# EAGLE library part BLUEGIGA_WT12 (library MAX9812)
BlueGiga's WT12 Bluetooth Module (2.0+EDR) Description: BlueCore4 is a single chip Bluetooth solution which implements the Bluetooth radio transceiver and also an on chip microcontroller. BlueCore4 implements Bluetooth® 2.0+EDR (Enhanced Data Rate) and it can deliver data rates up to 3 Mbps. The microcontroller (MCU) on BlueCore04 acts as interrupt controller and event timer run the Bluetooth software stack and control the radio and host interfaces. A 16-bit reduced instruction set computer (RISC) microcontroller is used for low power consumption and efficient use of memory. BlueCore04 has 48Kbytes of on-chip RAM is provided to support the RISC MCU and is shared between the ring buffers used to hold voice/data for each active connection and the general purpose memory required by the Bluetooth stack. Featrures: Fully Qualified Bluetooth system v2.0 + EDR, CE and FCC Integrated chip antenna Industrial temperature range from -40oC to +85oC Enhanced Data Rate (EDR) compliant with v2.0.E.2 of specification for both 2Mbps and 3Mbps modulation modes RoHS Compliant Full Speed Bluetooth Operation with Full Piconet Scatternet Support USB version 1.2 UART with bypass mode Support for 802.11 Coexistence 8Mbits of External Flash Applications: Hand held terminals Industrial devices Point-of-Sale systems PCs Personal Digital Assistants (PDAs) Computer Accessories Access Points Please send any comments to: messi@users.sourceforge.net
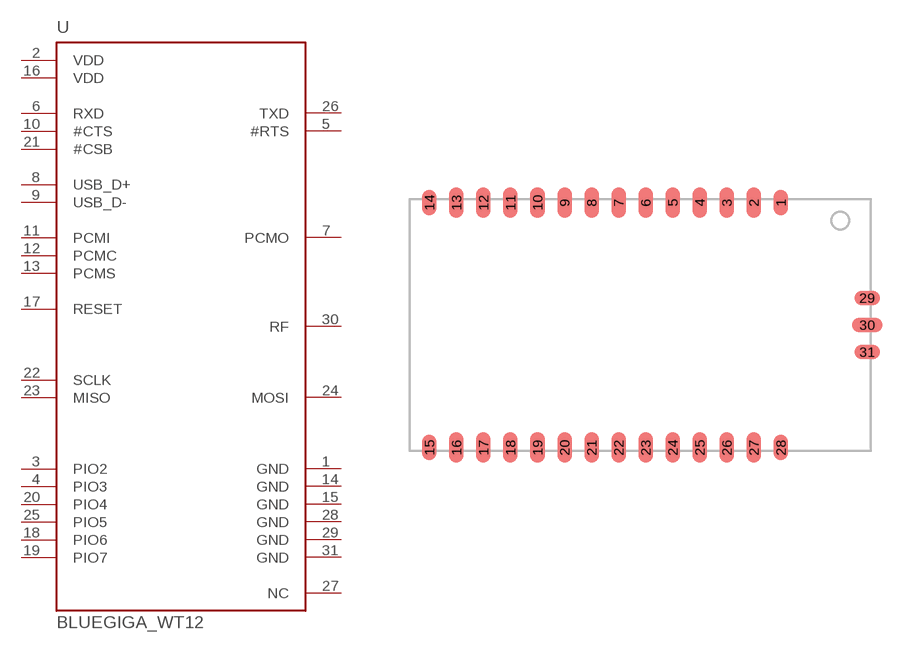
[diagram p146: symbol with the pads of WT12; footprint WT12]

Designator prefix U

## BLUEGIGA_WT12W  [WT12]
1  GND  pwr
2  VDD  pwr
3  PIO2
4  PIO3
5  #RTS  out
6  RXD  in
7  PCMO  out
8  USB_D+  sup
9  USB_D-  sup
10  #CTS  in
11  PCMI  in
12  PCMC
13  PCMS
14  GND  pwr
15  GND  pwr
16  VDD  pwr
17  RESET  in
18  PIO6
19  PIO7
20  PIO4
21  #CSB  in
22  SCLK
23  MISO  in
24  MOSI  out
25  PIO5
26  TXD  out
27  NC  nc
28  GND  pwr
29  GND  pwr
30  RF  pas
31  GND  pwr

## Footprint WT12 (pad centres in mm)
Footprint for the WT12 Bluetooth module from BlueGiga
smd 0.8 x 1.4: 1 7.8,6.8; 14 -11.7,6.8; 15 -11.7,-6.8; 28 7.8,-6.8
smd 0.8 x 1.7: 2 6.3,6.8; 3 4.8,6.8; 4 3.3,6.8; 5 1.8,6.8; 6 0.3,6.8; 7 -1.2,6.8; 8 -2.7,6.8; 9 -4.2,6.8; 10 -5.7,6.8; 11 -7.2,6.8; 12 -8.7,6.8; 13 -10.2,6.8; 16 -10.2,-6.8; 17 -8.7,-6.8; 18 -7.2,-6.8; 19 -5.7,-6.8; 20 -4.2,-6.8; 21 -2.7,-6.8; 22 -1.2,-6.8; 23 0.3,-6.8; 24 1.8,-6.8; 25 3.3,-6.8; 26 4.8,-6.8; 27 6.3,-6.8
smd 1.4 x 0.8: 29 12.6,1.5; 31 12.6,-1.5
smd 1.7 x 0.8: 30 12.6,0